# Altium footprint library SOT-723.PcbLib: 1 footprints
Each footprint in its own frame and in the unit in brackets; x right, y up, seen from the top. Pads: shape width x height; smd on the part's side, far side on the other; paste and mask are expansions set on the pad; w line width, h text height; cw(c..) or ccw(c..) is an arc to the next point about the centre after c.
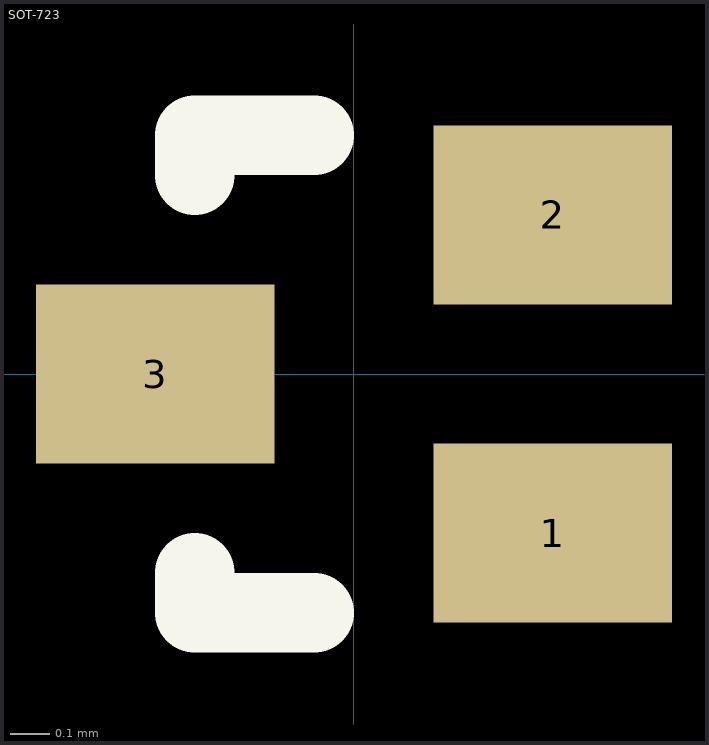
[diagram p0: the footprint, top view; thin cyan lines are the x and y axes]

## SOT-723 [mm]
pads (3):
  rect 0.6x0.45 smd: 1(0.5,-0.4) 2(0.5,0.4) 3(-0.5,0)
Top Overlay:
  lines w0.2: -0.4,-0.5 -0.4,-0.6 -0.1,-0.6 ; -0.4,0.5 -0.4,0.6 -0.1,0.6
3D body: height 0.45, standoff -0.01, extent -0.525,-0.625 0.525,0.625